# Altium schematic symbol library switch.SchLib: 44 symbols
Pins are listed as number, name and electrical type; pins without a type are passive.

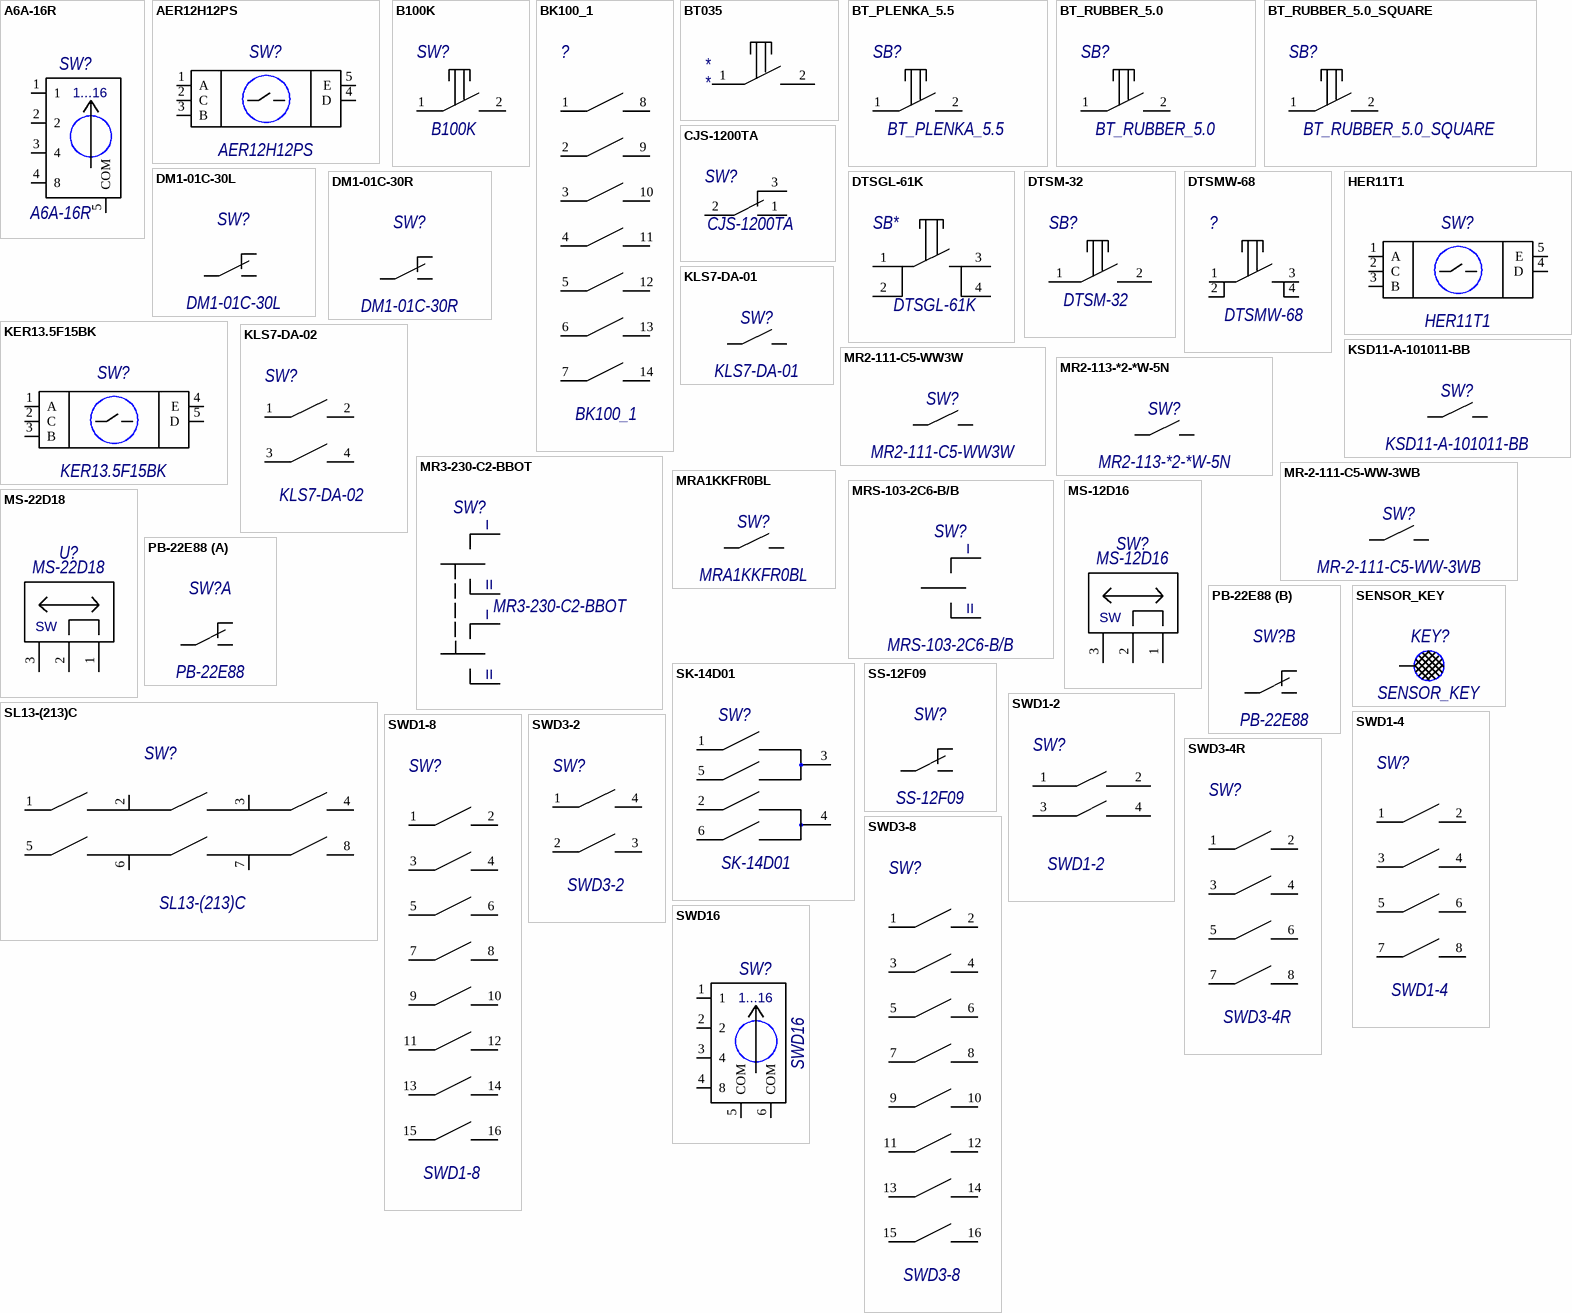
[diagram p0: symbols A6A-16R to SWD16]

## A6A-16R
designator SW?
Value: *
footprint A6A-16R
pins: 1, 2, 3 4, 4 8, 5 COM
text: 1...16

## AER12H12PS
designator SW?
Value: *
footprint AER
pins: 1 A, 2 C, 3 B, 4 D, 5 E

## B100K
designator SW?
Value: *
footprint B100K1
pins: 1 A, 2 B

## BK100_1
designator ?
Value: *
footprint B100K_1
pins: 1 A, 2 A, 3 A, 4 A, 5 A, 6 A, 7 A, 8 B, 9 B, 10 B, 11 B, 12 B, 13 B, 14 B

## BT035
designator *
footprint BT035
pins: 1 A, 2 B

## BT_PLENKA_5.5
designator SB?
Value: *
footprint BT_PLENKA_5.5
pins: 1 A, 2 B

## BT_RUBBER_5.0
designator SB?
Value: *
footprint BT_RUBBER_5.0
pins: 1 A, 2 B

## BT_RUBBER_5.0_SQUARE
designator SB?
Value: *
footprint BT_RUBBER_5.0_SQUARE
pins: 1 A, 2 B

## CJS-1200TA
designator SW?
footprint CJS-1200TA
pins: 1, 2, 3

## DM1-01C-30L
designator SW?
Value: *
footprint DM1-01C-30L
pins: 1, 2, 3, 4 hidden, 5 hidden

## DM1-01C-30R
designator SW?
Value: *
footprint DM1-01C-30R
pins: 1, 2, 3, 4 hidden, 5 hidden

## DTSGL-61K
designator SB*
Button; Value: *
footprint DTSGL-61K
pins: 1, 2, 3, 4, 5 GND (power) hidden

## DTSM-32
designator SB?
Value: *
footprint DTSM-32
pins: 1 A, 2 B

## DTSMW-68
designator ?
Value: *
footprint DTSMW-68
pins: 1 A, 2 B, 3 A, 4 B

## HER11T1
designator SW?
Value: *
footprint HER11T1
pins: 1 A, 2 C, 3 B, 4 D, 5 E

## KER13.5F15BK
designator SW?
Value: *
footprint KER13.5F15BK
pins: 1 A, 2 C, 3 B, 4 E, 5 D, 6 hidden, 7 hidden

## KLS7-DA-01
designator SW?
Value: *
footprint KLS7-DA-01
pins: 1 A, 2 B

## KLS7-DA-02
designator SW?
Value: *
footprint KLS7-DA-02
pins: 1 A1, 2 A2, 3 A3, 4 A4

## KSD11-A-101011-BB
designator SW?
Value: *
footprint MR2-111-C5-BB3W
pins: 1 A, 2 B

## MR2-111-C5-WW3W
designator SW?
Value: *
footprint MR2-111-C5-BB3W
pins: 1 A, 2 B

## MR2-113-*2-*W-5N
designator SW?
Value: *
footprint MR2-113-*2-*W-5N
pins: 1 A, 2 B

## MR3-230-C2-BBOT
designator SW?
Value: *
footprint MR3-230-C2-BBOT
pins: 1 IIA, 2 IIB, 3 0A, 4 0B, 5 IA, 6 IB
text: I; II

## MR-2-111-C5-WW-3WB
designator SW?
Value: *
footprint MR2-111-C5-BB3W
pins: 1 A, 2 B

## MRA1KKFR0BL
designator SW?
Value: *
footprint MRA1KKFR0BL_MRA1KKFR0BL(Primary)
pins: 1 A, 2 B

## MRS-103-2C6-B/B
designator SW?
Value: *
footprint MRS-103-2C6-B/B
pins: 1 O, 2 II, 3 I

## MS-12D16
designator SW?
Value: *
footprint MS-12D16
pins: 1, 2, 3
text: SW

## MS-22D18
designator U?
Value: *
pins: 1, 2, 3
text: SW

## PB-22E88
designator SW?
Value: *
footprint PB22E88
part A pins: 1 A, 2 C, 3 B
part B pins: 4 A, 5 C, 6 B

## SENSOR_KEY
designator KEY?
Value: *
footprint SENSOR_KEY
pins: 1 A

## SK-14D01
designator SW?
Value: *
footprint SK-14D01
pins: 1 A1, 2 A2, 3 C1, 4 C2, 5 B1, 6 B2

## SL13-(213)C
designator SW?
Value: *
footprint SL13-(213)C
pins: 1 A1, 2 B1, 3 C1, 4 D1, 5 A2, 6 B2, 7 C2, 8 D2

## SS-12F09
designator SW?
Value: *
footprint SS-12F09_SS-12F09(Primary)
pins: 1 A, 2 B, 3 C, 4 GND (power) hidden, 5 GND (power) hidden

## SWD1-2
designator SW?
Value: *
footprint SWD1-2
pins: 1 A, 2 B, 3 A, 4 B

## SWD1-4
designator SW?
Value: *
footprint SWD1-4
pins: 1 A, 2 B, 3 A, 4 B, 5 A, 6 B, 7 A, 8 B

## SWD1-8
designator SW?
Value: *
footprint SWD1-8
pins: 1 A, 2 B, 3 A, 4 B, 5 A, 6 B, 7 A, 8 B, 9 A, 10 B, 11 A, 12 B, 13 A, 14 B, 15 A, 16 B

## SWD3-2
designator SW?
Value: *
footprint SWD3-2
pins: 1 A, 2 A, 3 B, 4 B

## SWD3-4R
designator SW?
Value: *
footprint SWD3-4R
pins: 1 A, 2 B, 3 A, 4 B, 5 A, 6 B, 7 A, 8 B

## SWD3-8
designator SW?
Value: *
footprint SWD3-8
pins: 1 A, 2 B, 3 A, 4 B, 5 A, 6 B, 7 A, 8 B, 9 A, 10 B, 11 A, 12 B, 13 A, 14 B, 15 A, 16 B

## SWD16
designator SW?
Value: *
pins: 1, 2, 3 4, 4 8, 5 COM, 6 COM
text: 1...16

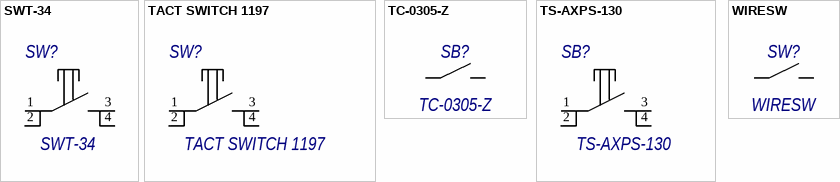
[diagram p1: symbols SWT-34 to WIRESW]

## SWT-34
designator SW?
Value: *
footprint SWT-34
pins: 1 A, 2 B, 3 A, 4 B

## TACT SWITCH 1197
designator SW?
Value: *
footprint TACT SWITCHES 1197 SERIES_TACT SWITCH 1197(Primary)
pins: 1 A, 2 A, 3 B, 4 B

## TC-0305-Z
designator SB?
Value: *
footprint TC-0305-Z
pins: 1 A, 2 B

## TS-AXPS-130
designator SB?
Value: *
footprint TS-AXPS-130
pins: 1 A, 2 A, 3 B, 4 B

## WIRESW
designator SW?
Value: *
footprint WIRE SW
pins: 1 A, 2 B